# Altium schematic symbol library Stargazer_Schematic_Lib.SchLib: 36 symbols (part 1 of 2)
Pins are listed as number, name and electrical type; pins without a type are passive.

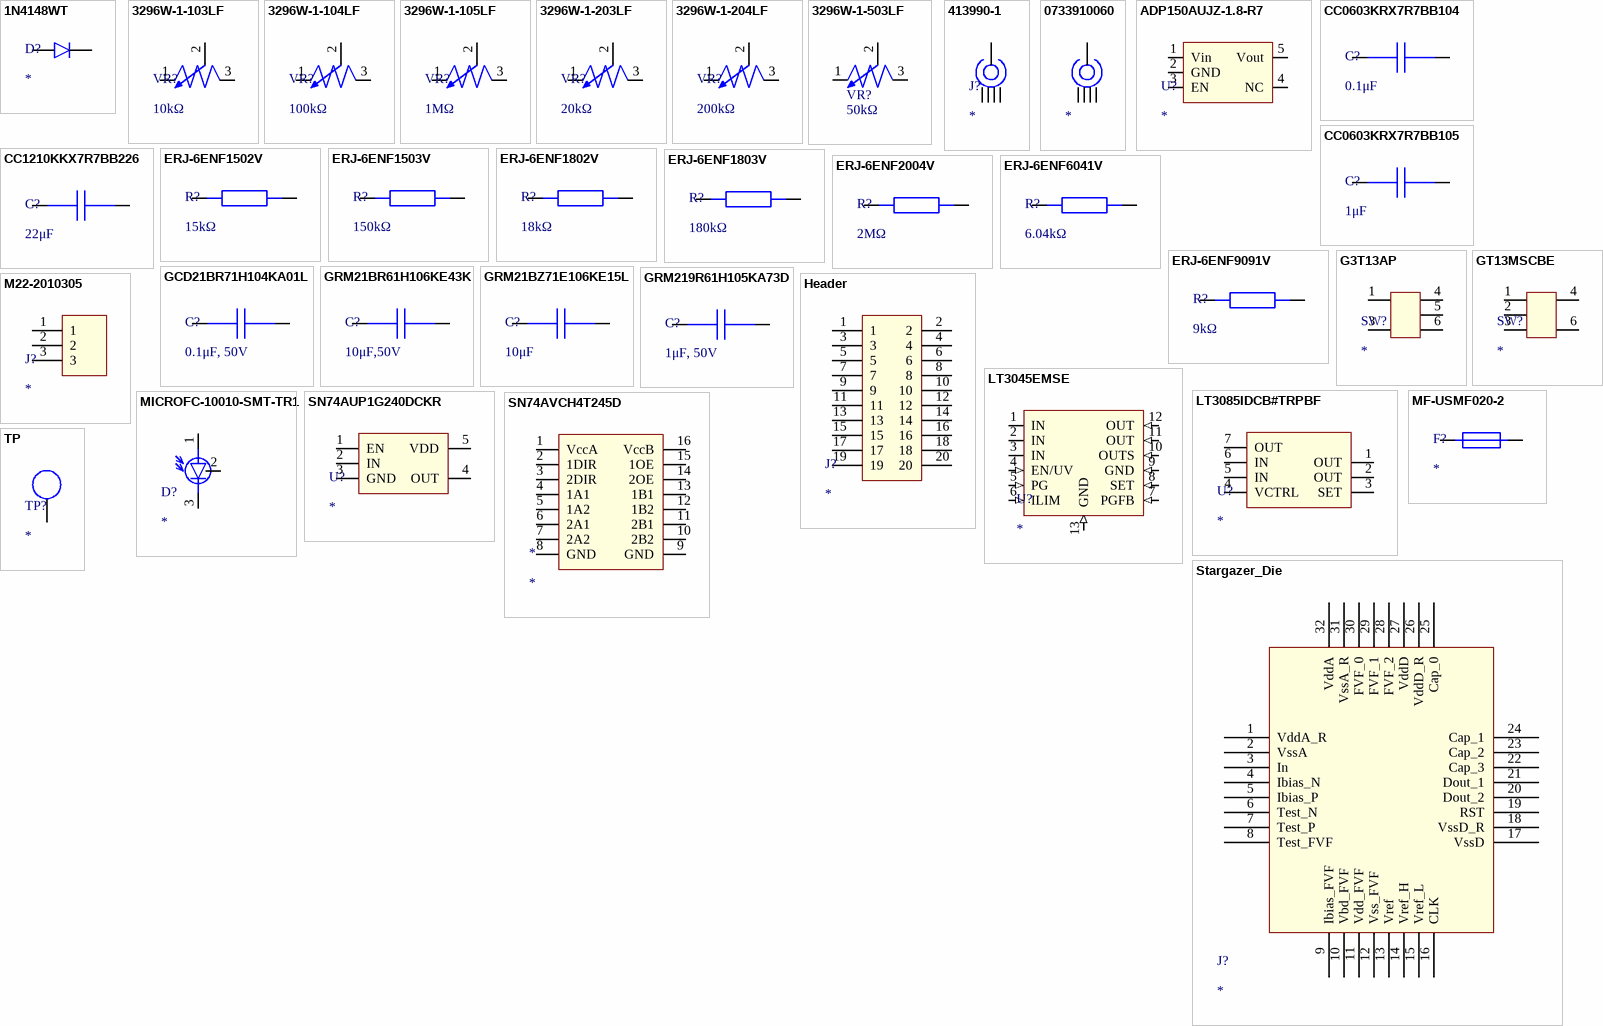
[diagram p0: symbols 1N4148WT to TP]

## 1N4148WT
designator D?
Rectifier Diode, 1 Phase, 1 Element, 0.3A, 75V V(RRM), Silicon https://www.digikey.ie/en/products/detail/onsemi/1N4148WT/1954014; Manufacturer: ON Semiconductor / Fairchild; Supplier: Rs; Supplier Part Number: 7614283P; Manufacturer Part Number: 1N4148WT; RoHS: Yes; Category: Rectifier Diodes; Stock: 67900; Pricing: 500=0.029, 1000=0.025, 2500=0.022 (EUR); Diode Type: RECTIFIER; RoHS Compliant: Yes; ComponentLink1URL: https://datasheet.ciiva.com/16744/1n4148wt-16744972.pdf?src-supplier=Future+Electronics; ComponentLink1Description: https://datasheet.ciiva.com/16744/1n4148wt-16744972.pdf?src-supplier=Future+Electronics; ComponentLink2URL: https://datasheet.ciiva.com/30479/0900766b810e1cd4-30479226.pdf?src-supplier=Rs; ComponentLink2Description: https://datasheet.ciiva.com/30479/0900766b810e1cd4-30479226.pdf?src-supplier=Rs; ComponentLink3URL: https://datasheet.ciiva.com/15208/getdatasheetpartid-146392-15208359.pdf?src-supplier=Verical; ComponentLink3Description: https://datasheet.ciiva.com/15208/getdatasheetpartid-146392-15208359.pdf?src-supplier=Verical; ComponentLink4URL: https://datasheet.ciiva.com/916/1n914bwt-916865.pdf?src-supplier=Digikey; ComponentLink4Description: https://datasheet.ciiva.com/916/1n914bwt-916865.pdf?src-supplier=Digikey; ComponentLink5URL: https://datasheet.ciiva.com/916/1n914bwt-916866.pdf?src-supplier=Digikey; ComponentLink5Description: https://datasheet.ciiva.com/916/1n914bwt-916866.pdf?src-supplier=Digikey; ComponentLink6URL: https://datasheet.ciiva.com/916/1n914bwt-916864.pdf?src-supplier=Digikey; ComponentLink6Description: https://datasheet.ciiva.com/916/1n914bwt-916864.pdf?src-supplier=Digikey
footprint SODFL160X70-2N (SODFL, 2-Leads, Body 0.80x1.60mm, IPC Medium Density)
pins: 1 Anode, 2 Cathode

## 3296W-1-103LF
designator VR?, comment 10kΩ
Trimmer, Cermet, 0.5W, 10000ohm, 300V, 10% +/-Tol, 100ppm/Cel, 25 Turn(s) https://www.digikey.ie/en/products/detail/bourns-inc/3296W-1-103LF/1088045; Manufacturer: Bourns; Actuator Orientation: Vertical; Actuator Type: SCREW; Number of Turns: 25; Power: 500mW; Rated Temperature: 70°C; Value: 10kR; Resistance Law: Linear; Rotational Angle: 9000°; Temperature Coefficient: -100100ppm/°C; Lead Diameter: 0.51mm; Lead Length: 6.4mm; Package Height: 10.03mm; Package Length: 9.53mm; Package Width: 4.83mm; Supplier: Rs; Supplier Part Number: 5219647; Manufacturer Part Number: 3296W-1-103LF; RoHS: Yes; Category: Variable Resistors and Potentiometers; Stock: 1838; Pricing: 1=2.17, 25=2.04, 50=1.86, 100=1.72, 250=1.54 (EUR); Mounting Technology: Through Hole; Pins: 3; Package Shape: Rectangular; Case/Package: 3819; Terminal Finish: Tin; Min Operating Temperature: -55°C; Max Operating Temperature: 125°C; Tolerance: 10%; JESD-609 Code: e3; Resistor Type: TRIMMER; Construction: Trimmer Pot; Package Style: PCB MountMeter; Packaging: Rail/Tube; Technology: CERMET; Termination: Wire; RoHS Compliant: Yes; Reach SVHC Compliant: No; ComponentLink1URL: https://datasheet.ciiva.com:443/pdfs/VipMasterIC/IC/BOUR/BOUR-S-A0008796795/BOUR-S-A0008796795-1.pdf?src-supplier=IHS+Markit; ComponentLink1Description: https://datasheet.ciiva.com:443/pdfs/VipMasterIC/IC/BOUR/BOUR-S-A0008796795/BOUR-S-A0008796795-1.pdf?src-supplier=IHS+Markit; ComponentLink2URL: https://datasheet.ciiva.com/14173/ew3296-dat-e-14173022.pdf?src-supplier=Distrelec; ComponentLink2Description: https://datasheet.ciiva.com/14173/ew3296-dat-e-14173022.pdf?src-supplier=Distrelec; ComponentLink3URL: https://datasheet.ciiva.com/3266/3296-3266187.pdf?src-supplier=Avnet; ComponentLink3Description: https://datasheet.ciiva.com/3266/3296-3266187.pdf?src-supplier=Avnet
footprint 3296W
pins: 1 CW, 2 CCW, 3

## 3296W-1-104LF
designator VR?, comment 100kΩ
Trimmer, Cermet, 0.5W, 100000ohm, 300V, 10% +/-Tol, 100ppm/Cel, 25 Turn(s) https://www.digikey.ie/en/products/detail/bourns-inc/3296W-1-104LF/1088046; Manufacturer: Bourns; Actuator Orientation: Vertical; Actuator Type: SCREW; Number of Turns: 25; Power: 500mW; Rated Temperature: 70°C; Value: 100kR; Resistance Law: Linear; Rotational Angle: 9000°; Temperature Coefficient: -100100ppm/°C; Lead Diameter: 0.51mm; Lead Length: 6.4mm; Package Height: 10.03mm; Package Length: 9.53mm; Package Width: 4.83mm; Supplier: Rs; Supplier Part Number: 5219653P; Manufacturer Part Number: 3296W-1-104LF; RoHS: Yes; Category: Variable Resistors and Potentiometers; Stock: 601; Pricing: 25=1.66, 50=1.5, 100=1.4, 250=1.24 (EUR); Mounting Technology: Through Hole; Pins: 3; Package Shape: Rectangular; Case/Package: 3819; Terminal Finish: Tin; Min Operating Temperature: -55°C; Max Operating Temperature: 125°C; Tolerance: 10%; JESD-609 Code: e3; Resistor Type: TRIMMER; Construction: Trimmer Pot; Package Style: PCB MountMeter; Packaging: Rail/Tube; Technology: CERMET; Termination: Wire; RoHS Compliant: Yes; Reach SVHC Compliant: No; ComponentLink1URL: https://datasheet.ciiva.com:443/pdfs/VipMasterIC/IC/BOUR/BOUR-S-A0008796795/BOUR-S-A0008796795-1.pdf?src-supplier=IHS+Markit; ComponentLink1Description: https://datasheet.ciiva.com:443/pdfs/VipMasterIC/IC/BOUR/BOUR-S-A0008796795/BOUR-S-A0008796795-1.pdf?src-supplier=IHS+Markit; ComponentLink2URL: https://datasheet.ciiva.com/19454/853599-19454875.pdf?src-supplier=Jameco; ComponentLink2Description: https://datasheet.ciiva.com/19454/853599-19454875.pdf?src-supplier=Jameco; ComponentLink3URL: https://datasheet.ciiva.com/11832/0900766b8069ccf4-11832242.pdf?src-supplier=Rs; ComponentLink3Description: https://datasheet.ciiva.com/11832/0900766b8069ccf4-11832242.pdf?src-supplier=Rs; ComponentLink4URL: https://datasheet.ciiva.com/30157/3296-30157434.pdf?src-supplier=Onlinecomponents.com; ComponentLink4Description: https://datasheet.ciiva.com/30157/3296-30157434.pdf?src-supplier=Onlinecomponents.com; ComponentLink5URL: https://datasheet.ciiva.com/18411/70153578-18411565.pdf?src-supplier=Allied+Electronics; ComponentLink5Description: https://datasheet.ciiva.com/18411/70153578-18411565.pdf?src-supplier=Allied+Electronics; ComponentLink6URL: https://datasheet.ciiva.com/1131/1815117-1131274.pdf?src-supplier=Element14; ComponentLink6Description: https://datasheet.ciiva.com/1131/1815117-1131274.pdf?src-supplier=Element14; ComponentLink7URL: https://datasheet.ciiva.com/3266/3296-3266188.pdf?src-supplier=Avnet; ComponentLink7Description: https://datasheet.ciiva.com/3266/3296-3266188.pdf?src-supplier=Avnet; ComponentLink8URL: https://datasheet.ciiva.com/2156/3296-2156895.pdf?src-supplier=Digikey; ComponentLink8Description: https://datasheet.ciiva.com/2156/3296-2156895.pdf?src-supplier=Digikey
footprint 3296W
pins: 1 CW, 2 CCW, 3

## 3296W-1-105LF
designator VR?, comment 1MΩ
Trimmer, Cermet, 0.5W, 1000000ohm, 300V, 10% +/-Tol, 100ppm/Cel, 25 Turn(s) https://www.digikey.ie/en/products/detail/bourns-inc/3296W-1-105LF/1088047; Manufacturer: Bourns; Actuator Orientation: Vertical; Actuator Type: SCREW; Number of Turns: 25; Power: 500mW; Rated Temperature: 70°C; Value: 1MR; Resistance Law: Linear; Rotational Angle: 9000°; Temperature Coefficient: -100100ppm/°C; Lead Diameter: 0.51mm; Lead Length: 6.4mm; Package Height: 10.03mm; Package Length: 9.53mm; Package Width: 4.83mm; Supplier: Rs; Supplier Part Number: 5219669P; Manufacturer Part Number: 3296W-1-105LF; RoHS: Yes; Category: Variable Resistors and Potentiometers; Stock: 234; Pricing: 10=1.97, 25=1.8, 50=1.64, 100=1.31 (EUR); Mounting Technology: Through Hole; Pins: 3; Package Shape: Rectangular; Case/Package: 3819; Terminal Finish: Tin; Min Operating Temperature: -55°C; Max Operating Temperature: 125°C; Tolerance: 10%; JESD-609 Code: e3; Resistor Type: TRIMMER; Construction: Trimmer Pot; Package Style: PCB MountMeter; Packaging: Rail/Tube; Technology: CERMET; Termination: Wire; RoHS Compliant: Yes; Reach SVHC Compliant: No; ComponentLink1URL: https://datasheet.ciiva.com:443/pdfs/VipMasterIC/IC/BOUR/BOUR-S-A0008796795/BOUR-S-A0008796795-1.pdf?src-supplier=IHS+Markit; ComponentLink1Description: https://datasheet.ciiva.com:443/pdfs/VipMasterIC/IC/BOUR/BOUR-S-A0008796795/BOUR-S-A0008796795-1.pdf?src-supplier=IHS+Markit; ComponentLink2URL: https://datasheet.ciiva.com/11831/0900766b8069ccf4-11831374.pdf?src-supplier=Rs; ComponentLink2Description: https://datasheet.ciiva.com/11831/0900766b8069ccf4-11831374.pdf?src-supplier=Rs; ComponentLink3URL: https://datasheet.ciiva.com/19466/853610-19466656.pdf?src-supplier=Jameco; ComponentLink3Description: https://datasheet.ciiva.com/19466/853610-19466656.pdf?src-supplier=Jameco; ComponentLink4URL: https://datasheet.ciiva.com/30226/3296-30226974.pdf?src-supplier=Onlinecomponents.com; ComponentLink4Description: https://datasheet.ciiva.com/30226/3296-30226974.pdf?src-supplier=Onlinecomponents.com; ComponentLink5URL: https://datasheet.ciiva.com/16714/70153578-16714837.pdf?src-supplier=Allied+Electronics; ComponentLink5Description: https://datasheet.ciiva.com/16714/70153578-16714837.pdf?src-supplier=Allied+Electronics; ComponentLink6URL: https://datasheet.ciiva.com/1131/1815117-1131275.pdf?src-supplier=Element14; ComponentLink6Description: https://datasheet.ciiva.com/1131/1815117-1131275.pdf?src-supplier=Element14; ComponentLink7URL: https://datasheet.ciiva.com/3266/3296-3266189.pdf?src-supplier=Avnet; ComponentLink7Description: https://datasheet.ciiva.com/3266/3296-3266189.pdf?src-supplier=Avnet; ComponentLink8URL: https://datasheet.ciiva.com/2163/3296-2163698.pdf?src-supplier=Digikey; ComponentLink8Description: https://datasheet.ciiva.com/2163/3296-2163698.pdf?src-supplier=Digikey; ComponentLink9URL: https://datasheet.ciiva.com/15156/getdatasheetpartid-123592-15156614.pdf?src-supplier=Verical; ComponentLink9Description: https://datasheet.ciiva.com/15156/getdatasheetpartid-123592-15156614.pdf?src-supplier=Verical; ComponentLink10URL: https://datasheet.ciiva.com/19482/1156779-19482123.pdf?src-supplier=Jameco; ComponentLink10Description: https://datasheet.ciiva.com/19482/1156779-19482123.pdf?src-supplier=Jameco
footprint 3296W
pins: 1 CW, 2 CCW, 3

## 3296W-1-203LF
designator VR?, comment 20kΩ
Trimmer, Cermet, 0.5W, 20000ohm, 300V, 10% +/-Tol, 100ppm/Cel, 25 Turn(s) https://www.bourns.com/docs/product-datasheets/3296.pdf; Manufacturer: Bourns; Manufacturer Part Number: 3296W-1-203LF; Actuator Orientation: Vertical; Actuator Type: SCREW; Number of Turns: 25; Power: 500mW; Rated Temperature: 70°C; Value: 20kR; Resistance Law: Linear; Rotational Angle: 9000°; Temperature Coefficient: -100100ppm/°C; Lead Diameter: 0.51mm; Lead Length: 6.4mm; Package Height: 10.03mm; Package Length: 9.53mm; Package Width: 4.83mm; Supplier: Digikey; Supplier Part Number: 3296W-203LF-ND; RoHS: Yes; Category: Variable Resistors and Potentiometers; Stock: 2018; Mounting Technology: Through Hole; Pins: 3; Package Shape: Rectangular; Case/Package: 3819; Terminal Finish: Tin; Min Operating Temperature: -55°C; Max Operating Temperature: 125°C; Tolerance: 10%; JESD-609 Code: e3; Resistor Type: TRIMMER; Construction: Trimmer Pot; Package Style: PCB MountMeter; Packaging: Rail/Tube; Technology: CERMET; Termination: Wire; RoHS Compliant: Yes; Reach SVHC Compliant: No; ComponentLink1URL: https://datasheet.ciiva.com:443/pdfs/VipMasterIC/IC/BOUR/BOUR-S-A0008796795/BOUR-S-A0008796795-1.pdf?src-supplier=IHS+Markit; ComponentLink1Description: https://datasheet.ciiva.com:443/pdfs/VipMasterIC/IC/BOUR/BOUR-S-A0008796795/BOUR-S-A0008796795-1.pdf?src-supplier=IHS+Markit; ComponentLink2URL: https://datasheet.ciiva.com/14173/ew3296-dat-e-14173023.pdf?src-supplier=Distrelec; ComponentLink2Description: https://datasheet.ciiva.com/14173/ew3296-dat-e-14173023.pdf?src-supplier=Distrelec; ComponentLink3URL: https://datasheet.ciiva.com/15156/getdatasheetpartid-62506-15156343.pdf?src-supplier=Verical; ComponentLink3Description: https://datasheet.ciiva.com/15156/getdatasheetpartid-62506-15156343.pdf?src-supplier=Verical
footprint 3296W
pins: 1 CW, 2 CCW, 3

## 3296W-1-204LF
designator VR?, comment 200kΩ
Trimmer, Cermet, 0.5W, 200000ohm, 300V, 10% +/-Tol, 100ppm/Cel, 25 Turn(s) https://www.bourns.com/docs/product-datasheets/3296.pdf; Manufacturer: Bourns; Manufacturer Part Number: 3296W-1-204LF; Actuator Orientation: Vertical; Actuator Type: SCREW; Number of Turns: 25; Power: 500mW; Rated Temperature: 70°C; Value: 200kR; Resistance Law: Linear; Rotational Angle: 9000°; Temperature Coefficient: -100100ppm/°C; Lead Diameter: 0.51mm; Lead Length: 6.4mm; Package Height: 10.03mm; Package Length: 9.53mm; Package Width: 4.83mm; Supplier: Rs; Supplier Part Number: 5219726; RoHS: Yes; Category: Variable Resistors and Potentiometers; Stock: 107; Pricing: 1=2.25, 10=2.02, 25=1.83, 50=1.68, 100=1.35 (EUR); Mounting Technology: Through Hole; Pins: 3; Package Shape: Rectangular; Case/Package: 3819; Terminal Finish: Tin; Min Operating Temperature: -55°C; Max Operating Temperature: 125°C; Tolerance: 10%; JESD-609 Code: e3; Resistor Type: TRIMMER; Construction: Trimmer Pot; Package Style: PCB MountMeter; Packaging: Rail/Tube; Technology: CERMET; Termination: Wire; RoHS Compliant: Yes; Reach SVHC Compliant: No; ComponentLink1URL: https://datasheet.ciiva.com:443/pdfs/VipMasterIC/IC/BOUR/BOUR-S-A0008796795/BOUR-S-A0008796795-1.pdf?src-supplier=IHS+Markit; ComponentLink1Description: https://datasheet.ciiva.com:443/pdfs/VipMasterIC/IC/BOUR/BOUR-S-A0008796795/BOUR-S-A0008796795-1.pdf?src-supplier=IHS+Markit; ComponentLink2URL: https://datasheet.ciiva.com/11831/0900766b8069ccf4-11831116.pdf?src-supplier=Rs; ComponentLink2Description: https://datasheet.ciiva.com/11831/0900766b8069ccf4-11831116.pdf?src-supplier=Rs; ComponentLink3URL: https://datasheet.ciiva.com/27051/1156824-27051543.pdf?src-supplier=Jameco; ComponentLink3Description: https://datasheet.ciiva.com/27051/1156824-27051543.pdf?src-supplier=Jameco; ComponentLink4URL: https://datasheet.ciiva.com/29122/447282-da-01-en-trimmer-tht3296w-1-204lf-200k-0-5w-29122366.pdf?src-supplier=Conrad; ComponentLink4Description: https://datasheet.ciiva.com/29122/447282-da-01-en-trimmer-tht3296w-1-204lf-200k-0-5w-29122366.pdf?src-supplier=Conrad; ComponentLink5URL: https://datasheet.ciiva.com/1131/1815117-1131340.pdf?src-supplier=Element14; ComponentLink5Description: https://datasheet.ciiva.com/1131/1815117-1131340.pdf?src-supplier=Element14; ComponentLink6URL: https://datasheet.ciiva.com/3267/3296-3267277.pdf?src-supplier=Avnet; ComponentLink6Description: https://datasheet.ciiva.com/3267/3296-3267277.pdf?src-supplier=Avnet; ComponentLink7URL: https://datasheet.ciiva.com/2156/3296-2156917.pdf?src-supplier=Digikey; ComponentLink7Description: https://datasheet.ciiva.com/2156/3296-2156917.pdf?src-supplier=Digikey
footprint 3296W
pins: 1 CW, 2 CCW, 3

## 3296W-1-503LF
designator VR?, comment 50kΩ
Trimmer, Cermet, 0.5W, 50000ohm, 300V, 10% +/-Tol, 100ppm/Cel, 25 Turn(s); Manufacturer: Bourns; Manufacturer Part Number: 3296W-1-503LF; Actuator Orientation: Vertical; Actuator Type: SCREW; Number of Turns: 25; Power: 500mW; Rated Temperature: 70°C; Value: 50kR; Resistance Law: Linear; Rotational Angle: 9000°; Temperature Coefficient: -100100ppm/°C; Lead Diameter: 0.51mm; Lead Length: 6.4mm; Package Height: 10.03mm; Package Length: 9.53mm; Package Width: 4.83mm; Supplier: Rs; Supplier Part Number: 5219805P; RoHS: Yes; Category: Variable Resistors and Potentiometers; Stock: 478; Pricing: 25=2.1, 50=1.91, 100=1.77, 250=1.6 (EUR); Mounting Technology: Through Hole; Pins: 3; Package Shape: Rectangular; Case/Package: 3819; Terminal Finish: Tin; Min Operating Temperature: -55°C; Max Operating Temperature: 125°C; Tolerance: 10%; JESD-609 Code: e3; Resistor Type: TRIMMER; Construction: Trimmer Pot; Package Style: PCB MountMeter; Packaging: Rail/Tube; Technology: CERMET; Termination: Wire; RoHS Compliant: Yes; Reach SVHC Compliant: No; ComponentLink1URL: https://datasheet.ciiva.com:443/pdfs/VipMasterIC/IC/BOUR/BOUR-S-A0008796795/BOUR-S-A0008796795-1.pdf?src-supplier=IHS+Markit; ComponentLink1Description: https://datasheet.ciiva.com:443/pdfs/VipMasterIC/IC/BOUR/BOUR-S-A0008796795/BOUR-S-A0008796795-1.pdf?src-supplier=IHS+Markit; ComponentLink2URL: https://datasheet.ciiva.com/27747/769485-27747554.pdf?src-supplier=Jameco; ComponentLink2Description: https://datasheet.ciiva.com/27747/769485-27747554.pdf?src-supplier=Jameco; ComponentLink3URL: https://datasheet.ciiva.com/29122/447285-da-01-en-trimmer-tht3296w-1-503lf-50k-0-5w-29122369.pdf?src-supplier=Conrad; ComponentLink3Description: https://datasheet.ciiva.com/29122/447285-da-01-en-trimmer-tht3296w-1-503lf-50k-0-5w-29122369.pdf?src-supplier=Conrad; ComponentLink4URL: https://datasheet.ciiva.com/2156/3296-2156902.pdf?src-supplier=Digikey; ComponentLink4Description: https://datasheet.ciiva.com/2156/3296-2156902.pdf?src-supplier=Digikey; ComponentLink5URL: https://datasheet.ciiva.com/3266/3296-3266197.pdf?src-supplier=Avnet; ComponentLink5Description: https://datasheet.ciiva.com/3266/3296-3266197.pdf?src-supplier=Avnet
footprint 3296W
pins: 1 CW, 2 CCW, 3

## 413990-1
designator J?
RF SMB Connector, 1 Contact(s), Male, Board Mount, Solder Terminal, Locking, Jack https://www.digikey.ie/en/products/detail/te-connectivity-amp-connectors/413990-1/163783; Manufacturer: TE Connectivity; Manufacturer Series: 413990; Contact Resistance: 8mR; Durability: 500Cycles; Insertion Force-Max: 62.272N; Insulation Resistance: 1GR; Rated Current (Signal): 1.5A; Number of Contacts: 1; Withdrawl Force-Min: 8.896N; Option: General Purpose; Characteristic Impedance: 50R; Contact Style: Coax; Coupling Type: Snap; Filter Feature: No; Insertion Loss: 0.3dB; Operating Frequency-Max: 4kHz; Panel Mount: No; Body Breadth: 0.25inch; Body Depth: 0.3inch; Reliability: COMMERCIAL; Supplier: Rs; Supplier Part Number: 7131123P; Manufacturer Part Number: 413990-1; RoHS: Yes; Category: RF / Coaxial Connectors; Stock: 87; Pricing: 15=5.5, 50=5.13, 100=4.67, 250=4.54 (EUR); Mounting Technology: Board; Contact Finish - Mating: NOT SPECIFIED; Insulation Material: POLYTETRAFLUORO; Shell Finish: Gold; Shell Material: Brass; Min Operating Temperature: -65°C; Max Operating Temperature: 165°C; Connector Type: SMB; Body/Shell Style: JACK; Mounting Style: STRAIGHT; Termination: Solder; JESD-609 Code: e4; Contact Gender: Male; Number of Ports: 1; Mounting Option 1: LOCKING; Terminal Length: 0.155inch; Body Length: 0.25inch; RoHS Compliant: Yes; Reach SVHC Compliant: No; DIN Conformance: No; IEC Conformance: No; MIL Conformance: No; ComponentLink1URL: https://www.te.com:443/usa-en/product-413990-1.html?src-supplier=IHS+Markit; ComponentLink1Description: https://www.te.com:443/usa-en/product-413990-1.html?src-supplier=IHS+Markit; ComponentLink2URL: https://datasheet.ciiva.com/27050/848415-27050392.pdf?src-supplier=Jameco; ComponentLink2Description: https://datasheet.ciiva.com/27050/848415-27050392.pdf?src-supplier=Jameco; ComponentLink3URL: https://datasheet.ciiva.com/11762/0900766b80edb1fd-11762988.pdf?src-supplier=Rs; ComponentLink3Description: https://datasheet.ciiva.com/11762/0900766b80edb1fd-11762988.pdf?src-supplier=Rs; ComponentLink4URL: https://datasheet.ciiva.com/642/eng-cd-413990-d2-642893.pdf?src-supplier=Digikey; ComponentLink4Description: https://datasheet.ciiva.com/642/eng-cd-413990-d2-642893.pdf?src-supplier=Digikey; ComponentLink5URL: https://datasheet.ciiva.com/14567/70083830-14567895.pdf?src-supplier=Allied+Electronics; ComponentLink5Description: https://datasheet.ciiva.com/14567/70083830-14567895.pdf?src-supplier=Allied+Electronics; ComponentLink6URL: https://datasheet.ciiva.com/30157/eng-cs-1307191-rf-coax-products-0307-30157272.pdf?src-supplier=Onlinecomponents.com; ComponentLink6Description: https://datasheet.ciiva.com/30157/eng-cs-1307191-rf-coax-products-0307-30157272.pdf?src-supplier=Onlinecomponents.com; ComponentLink7URL: https://datasheet.ciiva.com/1448/595924-1448441.pdf?src-supplier=Element14; ComponentLink7Description: https://datasheet.ciiva.com/1448/595924-1448441.pdf?src-supplier=Element14
footprint CONN_SMB_RCPT_STR
pins: 1, 2, 3, 4, 5

## 0733910060
designator J?
RF SMA Connector, Female, Board Mount, Solder Terminal, Receptacle https://www.digikey.ie/en/products/detail/molex/0732513140/9740776?s=N4IgTCBcDaIOwGYwFYCMDUBYAMIC6AvkA; Manufacturer: Molex; Manufacturer Part Number: 0733910060; Manufacturer Series: 73391; Characteristic Impedance: 50R; Option: General Purpose; Coupling Type: Threaded; Filter Feature: No; Panel Mount: No; Supplier: Rs; Supplier Part Number: 7595303; RoHS: Yes; Stock: 101; Pricing: 1=4.69, 15=4.12, 50=3.95, 100=3.81, 250=3.65 (EUR); Mounting Technology: Board; Contact Finish - Mating: NOT SPECIFIED; Connector Type: SMA; Body/Shell Style: RECEPTACLE; Mounting Style: STRAIGHT; Termination: Solder; Contact Gender: Female; RoHS Compliant: Yes; Reach SVHC Compliant: No; DIN Conformance: No; IEC Conformance: No; MIL Conformance: No; ComponentLink1URL: https://datasheet.ciiva.com:443/pdfs/VipMasterIC/IC/MOLE/MOLE-S-A0001434891/MOLE-S-A0001473123-1.pdf?src-supplier=IHS+Markit; ComponentLink1Description: https://datasheet.ciiva.com:443/pdfs/VipMasterIC/IC/MOLE/MOLE-S-A0001434891/MOLE-S-A0001473123-1.pdf?src-supplier=IHS+Markit
footprint CONN_SMA_RCPT_STR
pins: 1, 2, 3, 4, 5

## ADP150AUJZ-1.8-R7
designator U?
Ultralow Noise, 150 mA CMOS Linear Regulator, 2.2 to 5.5 V Vin, 1.8 V Vout, Industrial, 5-pin SOT23 (UJ-5), Reel; Manufacturer: Analog Devices; Manufacturer Part Number: ADP150AUJZ-1.8-R7; Package Body Material: Plastic; Adjustability: FIXED; Dropout Voltage1-Nom: 105mV; Input Voltage Absolute-Max: 6.5V; Max Supply Voltage: 5.5V; Min Input Voltage: 2.2V; Line Regulation-Max: 0.003%; Load Regulation-Max: 0.0203%; Channels: 1; Output Current1-Max: 150mA; Output Voltage1-Max: 1.827V; Output Voltage1-Min: 1.755V; Output Voltage1-Nom: 1.8V; Package Equivalence Code: TSOP5/6,.11,37; Regulator Type: FIXED POSITIVE SINGLE OUTPUT LDO REGULATOR; Time @ Peak Reflow Temperature-Max (s): 40s; Voltage Tolerance-Max: 2.5%; Qualification Status: Not Qualified; Supplier: Mouser; Supplier Part Number: 584-ADP150AUJZ-1.8R7; RoHS: Yes; Category: Voltage Regulators - Linear; Stock: 2472; Case/Package: VSSOP; Pins: 5; Package Shape: Rectangular; Terminal Finish: Tin; JESD-609 Code: e3; JESD-30 Code: R-PDSO-G5; Moisture Sensitivity Level: 1; Number of Outputs: 1; Operating Temperature, TJ-Max: 125°C; Operating Temperature, TJ-Min: -40°C; Package Style: SMALL OUTLINE, VERY THIN PROFILE, SHRINK PITCHMeter; Packaging: Tape and Reel; Peak Reflow Temperature (Cel): 260°C; Surface Mount: Yes; Technology: CMOS; Terminal Form: Gull Wing; Terminal Position: DUAL; Length: 2.9mm; Width: 1.6mm; Height - Seated (Max): 1mm; Terminal Pitch: 0.95mm; Reach SVHC Compliant: Yes; RoHS Compliant: Yes; ComponentLink1URL: https://datasheet.ciiva.com:443/pdfs/VipMasterIC/IC/ANDI/ANDI-S-A0001491086/ANDI-S-A0001491086-1.pdf?src-supplier=IHS+Markit; ComponentLink1Description: https://datasheet.ciiva.com:443/pdfs/VipMasterIC/IC/ANDI/ANDI-S-A0001491086/ANDI-S-A0001491086-1.pdf?src-supplier=IHS+Markit; ComponentLink2URL: https://datasheet.ciiva.com/2040/adp150-2040604.pdf?src-supplier=Digikey; ComponentLink2Description: https://datasheet.ciiva.com/2040/adp150-2040604.pdf?src-supplier=Digikey; ComponentLink3URL: https://datasheet.ciiva.com/2040/adp150-2040605.pdf?src-supplier=Digikey; ComponentLink3Description: https://datasheet.ciiva.com/2040/adp150-2040605.pdf?src-supplier=Digikey; ComponentLink4URL: https://datasheet.ciiva.com/2040/adp150-2040606.pdf?src-supplier=Digikey; ComponentLink4Description: https://datasheet.ciiva.com/2040/adp150-2040606.pdf?src-supplier=Digikey
pins: 1 Vin, 2 GND, 3 EN, 4 NC, 5 Vout

## CC0603KRX7R7BB104
designator C?, comment 0.1μF
Ceramic Capacitor, Multilayer, Ceramic, 16V, 10% +Tol, 10% -Tol, X7R, 15% TC, 0.1uF, Surface Mount, 0603 https://www.digikey.ie/en/products/detail/yageo/CC0603KRX7R7BB104/302822; Manufacturer: Yageo; Value: 100nF; Multilayer: Yes; Supplier: Digikey; Supplier Part Number: 311-1088-1-ND; Manufacturer Part Number: CC0603KRX7R7BB104; RoHS: Yes; Category: Ceramic Capacitors; Stock: 8597331; Mounting Technology: Surface Mount; Pins: 2; Dielectric Material: Ceramic; Package Shape: Rectangular; Case/Package: 0603; Terminal Finish: Nickel; Min Operating Temperature: -55°C; Max Operating Temperature: 125°C; JESD-609 Code: e3; Capacitor Type: Ceramic; Tolerance  (fill in as +-): 10%; Package Style: SMTMeter; Packaging: Tape and Reel; Tolerance (fill in as +-): 10%; Rated DC Voltage (URdc): 16V; Temperature Characteristics Code: X7R; Termination: Wraparound; Length: 1.6mm; Width: 0.8mm; Height: 0.8mm; Reach SVHC Compliant: Yes; RoHS Compliant: Yes; ComponentLink1URL: https://datasheet.ciiva.com:443/pdfs/VipMasterIC/IC/YAGO/YAGO-S-A0003557223/YAGO-S-A0003557223-1.pdf?src-supplier=IHS+Markit; ComponentLink1Description: https://datasheet.ciiva.com:443/pdfs/VipMasterIC/IC/YAGO/YAGO-S-A0003557223/YAGO-S-A0003557223-1.pdf?src-supplier=IHS+Markit; ComponentLink2URL: https://datasheet.ciiva.com/11786/0900766b80d84f1d-11786077.pdf?src-supplier=Rs; ComponentLink2Description: https://datasheet.ciiva.com/11786/0900766b80d84f1d-11786077.pdf?src-supplier=Rs; ComponentLink3URL: https://datasheet.ciiva.com/8033/70765-8033799.pdf?src-supplier=Element14; ComponentLink3Description: https://datasheet.ciiva.com/8033/70765-8033799.pdf?src-supplier=Element14; ComponentLink4URL: https://datasheet.ciiva.com/7978/1489800-7978141.pdf?src-supplier=Element14; ComponentLink4Description: https://datasheet.ciiva.com/7978/1489800-7978141.pdf?src-supplier=Element14; ComponentLink5URL: https://datasheet.ciiva.com/28450/1489800-28450552.pdf?src-supplier=Element14; ComponentLink5Description: https://datasheet.ciiva.com/28450/1489800-28450552.pdf?src-supplier=Element14; ComponentLink6URL: https://datasheet.ciiva.com/46430/1734573-46430156.pdf?src-supplier=Element14; ComponentLink6Description: https://datasheet.ciiva.com/46430/1734573-46430156.pdf?src-supplier=Element14; ComponentLink7URL: https://datasheet.ciiva.com/144/mlccorderingcode-144183.pdf?src-supplier=Digikey; ComponentLink7Description: https://datasheet.ciiva.com/144/mlccorderingcode-144183.pdf?src-supplier=Digikey; ComponentLink8URL: https://datasheet.ciiva.com/144/mlccorderingcode-144182.pdf?src-supplier=Digikey; ComponentLink8Description: https://datasheet.ciiva.com/144/mlccorderingcode-144182.pdf?src-supplier=Digikey; ComponentLink9URL: https://datasheet.ciiva.com/144/mlccorderingcode-144184.pdf?src-supplier=Digikey; ComponentLink9Description: https://datasheet.ciiva.com/144/mlccorderingcode-144184.pdf?src-supplier=Digikey; ComponentLink10URL: https://datasheet.ciiva.com/8033/1734573-8033797.pdf?src-supplier=Element14; ComponentLink10Description: https://datasheet.ciiva.com/8033/1734573-8033797.pdf?src-supplier=Element14; ComponentLink11URL: https://datasheet.ciiva.com/13395/upy-gphc-x7r-6-3v-to-50v-8-13395674.pdf?src-supplier=Mouser; ComponentLink11Description: https://datasheet.ciiva.com/13395/upy-gphc-x7r-6-3v-to-50v-8-13395674.pdf?src-supplier=Mouser
pins: 1, 2

## CC0603KRX7R7BB105
designator C?, comment 1μF
Ceramic Capacitor, Multilayer, Ceramic, 16V, 10% +Tol, 10% -Tol, X7R, 15% TC, 1uF, Surface Mount, 0603 https://www.digikey.ie/en/products/detail/yageo/CC0603KRX7R7BB105/2833611; Manufacturer: Yageo; Multilayer: Yes; Supplier: Digikey; Supplier Part Number: 311-1446-6-ND; Manufacturer Part Number: CC0603KRX7R7BB105; RoHS: Yes; Category: Ceramic Capacitors; Stock: 9128438; Mounting Technology: Surface Mount; Pins: 2; Dielectric Material: Ceramic; Package Shape: Rectangular; Case/Package: 0603; Terminal Finish: Nickel; Min Operating Temperature: -55°C; Max Operating Temperature: 125°C; JESD-609 Code: e3; Value: 1uF; Capacitor Type: Ceramic; Tolerance  (fill in as +-): 10%; Package Style: SMTMeter; Packaging: Tape and Reel; Tolerance (fill in as +-): 10%; Rated DC Voltage (URdc): 16V; Temperature Characteristics Code: X7R; Termination: Wraparound; Length: 1.6mm; Width: 0.8mm; Height: 0.8mm; Reach SVHC Compliant: Yes; RoHS Compliant: Yes; ComponentLink1URL: https://datasheet.ciiva.com:443/pdfs/VipMasterIC/IC/YAGO/YAGO-S-A0003557223/YAGO-S-A0003557223-1.pdf?src-supplier=IHS+Markit; ComponentLink1Description: https://datasheet.ciiva.com:443/pdfs/VipMasterIC/IC/YAGO/YAGO-S-A0003557223/YAGO-S-A0003557223-1.pdf?src-supplier=IHS+Markit; ComponentLink2URL: https://datasheet.ciiva.com/8033/1734573-8033801.pdf?src-supplier=Element14; ComponentLink2Description: https://datasheet.ciiva.com/8033/1734573-8033801.pdf?src-supplier=Element14; ComponentLink3URL: https://datasheet.ciiva.com/8033/1734573-8033800.pdf?src-supplier=Element14; ComponentLink3Description: https://datasheet.ciiva.com/8033/1734573-8033800.pdf?src-supplier=Element14; ComponentLink4URL: https://datasheet.ciiva.com/7978/1489800-7978143.pdf?src-supplier=Element14; ComponentLink4Description: https://datasheet.ciiva.com/7978/1489800-7978143.pdf?src-supplier=Element14; ComponentLink5URL: https://datasheet.ciiva.com/28450/1489800-28450557.pdf?src-supplier=Element14; ComponentLink5Description: https://datasheet.ciiva.com/28450/1489800-28450557.pdf?src-supplier=Element14; ComponentLink6URL: https://datasheet.ciiva.com/176/mlccorderingcode-176789.pdf?src-supplier=Digikey; ComponentLink6Description: https://datasheet.ciiva.com/176/mlccorderingcode-176789.pdf?src-supplier=Digikey; ComponentLink7URL: https://datasheet.ciiva.com/176/mlccorderingcode-176788.pdf?src-supplier=Digikey; ComponentLink7Description: https://datasheet.ciiva.com/176/mlccorderingcode-176788.pdf?src-supplier=Digikey; ComponentLink8URL: https://datasheet.ciiva.com/176/mlccorderingcode-176790.pdf?src-supplier=Digikey; ComponentLink8Description: https://datasheet.ciiva.com/176/mlccorderingcode-176790.pdf?src-supplier=Digikey; ComponentLink9URL: https://datasheet.ciiva.com/5425/upy-gphc-x7r-6-3v-to-50v-8-12304-5425495.pdf?src-supplier=Mouser; ComponentLink9Description: https://datasheet.ciiva.com/5425/upy-gphc-x7r-6-3v-to-50v-8-12304-5425495.pdf?src-supplier=Mouser
pins: 1, 2

## CC1210KKX7R7BB226
designator C?, comment 22μF
Ceramic Capacitor, Multilayer, Ceramic, 16V, 10% +Tol, 10% -Tol, X7R, 15% TC, 22uF, Surface Mount, 1210 https://www.digikey.ie/en/products/detail/yageo/CC1210KKX7R7BB226/5195434; Manufacturer: Yageo; Multilayer: Yes; Supplier: Rs; Supplier Part Number: 1992345; Manufacturer Part Number: CC1210KKX7R7BB226; RoHS: Yes; Category: Ceramic Capacitors; Stock: 1770; Pricing: 10=0.332, 100=0.248, 500=0.216, 1000=0.198 (EUR); Mounting Technology: Surface Mount; Pins: 2; Dielectric Material: Ceramic; Package Shape: Rectangular; Case/Package: 1210; Terminal Finish: Nickel; Min Operating Temperature: -55°C; Max Operating Temperature: 125°C; JESD-609 Code: e3; Value: 22uF; Capacitor Type: Ceramic; Tolerance  (fill in as +-): 10%; Package Style: SMTMeter; Packaging: Tape and Reel; Tolerance (fill in as +-): 10%; Rated DC Voltage (URdc): 16V; Temperature Characteristics Code: X7R; Termination: Wraparound; Length: 3.2mm; Width: 2.5mm; Height: 2.5mm; Reach SVHC Compliant: Yes; RoHS Compliant: Yes; ComponentLink1URL: https://datasheet.ciiva.com:443/pdfs/VipMasterIC/IC/YAGO/YAGO-S-A0003557223/YAGO-S-A0003557223-1.pdf?src-supplier=IHS+Markit; ComponentLink1Description: https://datasheet.ciiva.com:443/pdfs/VipMasterIC/IC/YAGO/YAGO-S-A0003557223/YAGO-S-A0003557223-1.pdf?src-supplier=IHS+Markit; ComponentLink2URL: https://datasheet.ciiva.com/11465/upy-gphc-x7r-6-3v-to-50v-8-11465512.pdf?src-supplier=Avnet; ComponentLink2Description: https://datasheet.ciiva.com/11465/upy-gphc-x7r-6-3v-to-50v-8-11465512.pdf?src-supplier=Avnet
pins: 1, 2

## ERJ-6ENF1502V
designator R?, comment 15kΩ
Fixed Resistor, Metal Glaze/thick Film, 0.125W, 15000ohm, 150V, 1% +/-Tol, 100ppm/Cel, Surface Mount, 0805 https://www.digikey.ie/en/products/detail/panasonic-electronic-components/ERJ-6ENF1502V/111508; Power: 125mW; Rated Temperature: 70°C; Value: 15kR; Temperature Coefficient: 100ppm/°C; Package Height: 0.6mm; Package Length: 2mm; Package Width: 1.25mm; Reference Standard: AEC-Q200; Supplier: Mouser; Supplier Part Number: 667-ERJ-6ENF1502V; Manufacturer: Panasonic; Manufacturer Part Number: ERJ-6ENF1502V; RoHS: Yes; Category: Chip SMD Resistors; Stock: 95123; Mounting Technology: Surface Mount; Pins: 2; Package Shape: Rectangular; Case/Package: 0805; Terminal Finish: Nickel; Min Operating Temperature: -55°C; Max Operating Temperature: 155°C; Tolerance: 1%; Construction: Rectangular; Package Style: SMTMeter; Packaging: Tape and Reel; Termination: Wraparound; JESD-609 Code: e3; Resistor Type: FIXED RESISTOR; Technology: METAL GLAZE/THICK FILM; Working Voltage: 150V; RoHS Compliant: Yes; Reach SVHC Compliant: Yes; ComponentLink1URL: https://datasheet.ciiva.com:443/pdfs/VipMasterIC/IC/PANA/PANA-S-A0009889626/PANA-S-A0009889626-1.pdf?src-supplier=IHS+Markit; ComponentLink1Description: https://datasheet.ciiva.com:443/pdfs/VipMasterIC/IC/PANA/PANA-S-A0009889626/PANA-S-A0009889626-1.pdf?src-supplier=IHS+Markit; ComponentLink2URL: https://datasheet.ciiva.com/11821/0900766b80f80784-11821538.pdf?src-supplier=Rs; ComponentLink2Description: https://datasheet.ciiva.com/11821/0900766b80f80784-11821538.pdf?src-supplier=Rs; ComponentLink3URL: https://datasheet.ciiva.com/6138/426256-6138184.pdf?src-supplier=Farnell; ComponentLink3Description: https://datasheet.ciiva.com/6138/426256-6138184.pdf?src-supplier=Farnell; ComponentLink4URL: https://datasheet.ciiva.com/27055/1989076-27055738.pdf?src-supplier=Jameco; ComponentLink4Description: https://datasheet.ciiva.com/27055/1989076-27055738.pdf?src-supplier=Jameco; ComponentLink5URL: https://datasheet.ciiva.com/8079/426256-8079611.pdf?src-supplier=Element14; ComponentLink5Description: https://datasheet.ciiva.com/8079/426256-8079611.pdf?src-supplier=Element14; ComponentLink6URL: https://datasheet.ciiva.com/22668/1678782-22668330.pdf?src-supplier=Element14; ComponentLink6Description: https://datasheet.ciiva.com/22668/1678782-22668330.pdf?src-supplier=Element14; ComponentLink7URL: https://datasheet.ciiva.com/22687/1678782-22687078.pdf?src-supplier=Element14; ComponentLink7Description: https://datasheet.ciiva.com/22687/1678782-22687078.pdf?src-supplier=Element14; ComponentLink8URL: https://datasheet.ciiva.com/16773/70260748-16773989.pdf?src-supplier=Allied+Electronics; ComponentLink8Description: https://datasheet.ciiva.com/16773/70260748-16773989.pdf?src-supplier=Allied+Electronics; ComponentLink9URL: https://datasheet.ciiva.com/16426/aoa0000ce2-16426213.pdf?src-supplier=Future+Electronics; ComponentLink9Description: https://datasheet.ciiva.com/16426/aoa0000ce2-16426213.pdf?src-supplier=Future+Electronics
pins: 1 -, 2

## ERJ-6ENF1503V
designator R?, comment 150kΩ
Fixed Resistor, Metal Glaze/thick Film, 0.125W, 150000ohm, 150V, 1% +/-Tol, 100ppm/Cel, Surface Mount, 0805 https://www.digikey.ie/en/products/detail/panasonic-electronic-components/ERJ-6ENF1503V/111899; Power: 125mW; Rated Temperature: 70°C; Value: 150kR; Temperature Coefficient: 100ppm/°C; Package Height: 0.6mm; Package Length: 2mm; Package Width: 1.25mm; Reference Standard: AEC-Q200; Supplier: Mouser; Supplier Part Number: 667-ERJ-6ENF1503V; Manufacturer: Panasonic; Manufacturer Part Number: ERJ-6ENF1503V; RoHS: Yes; Category: Chip SMD Resistors; Stock: 83217; Mounting Technology: Surface Mount; Pins: 2; Package Shape: Rectangular; Case/Package: 0805; Terminal Finish: Nickel; Min Operating Temperature: -55°C; Max Operating Temperature: 155°C; Tolerance: 1%; Construction: Rectangular; Package Style: SMTMeter; Packaging: Tape and Reel; Termination: Wraparound; JESD-609 Code: e3; Resistor Type: FIXED RESISTOR; Technology: METAL GLAZE/THICK FILM; Working Voltage: 150V; RoHS Compliant: Yes; Reach SVHC Compliant: Yes; ComponentLink1URL: https://datasheet.ciiva.com:443/pdfs/VipMasterIC/IC/PANA/PANA-S-A0009889626/PANA-S-A0009889626-1.pdf?src-supplier=IHS+Markit; ComponentLink1Description: https://datasheet.ciiva.com:443/pdfs/VipMasterIC/IC/PANA/PANA-S-A0009889626/PANA-S-A0009889626-1.pdf?src-supplier=IHS+Markit; ComponentLink2URL: https://datasheet.ciiva.com/11821/0900766b80f80784-11821521.pdf?src-supplier=Rs; ComponentLink2Description: https://datasheet.ciiva.com/11821/0900766b80f80784-11821521.pdf?src-supplier=Rs; ComponentLink3URL: https://datasheet.ciiva.com/34303/1989084-34303621.pdf?src-supplier=Jameco; ComponentLink3Description: https://datasheet.ciiva.com/34303/1989084-34303621.pdf?src-supplier=Jameco; ComponentLink4URL: https://datasheet.ciiva.com/9185/aoa0000ce2-9185518.pdf?src-supplier=Avnet; ComponentLink4Description: https://datasheet.ciiva.com/9185/aoa0000ce2-9185518.pdf?src-supplier=Avnet; ComponentLink5URL: https://datasheet.ciiva.com/16758/70260748-16758950.pdf?src-supplier=Allied+Electronics; ComponentLink5Description: https://datasheet.ciiva.com/16758/70260748-16758950.pdf?src-supplier=Allied+Electronics; ComponentLink6URL: https://datasheet.ciiva.com/16774/70260748-16774137.pdf?src-supplier=Allied+Electronics; ComponentLink6Description: https://datasheet.ciiva.com/16774/70260748-16774137.pdf?src-supplier=Allied+Electronics; ComponentLink7URL: https://datasheet.ciiva.com/28547/1678782-28547238.pdf?src-supplier=Element14; ComponentLink7Description: https://datasheet.ciiva.com/28547/1678782-28547238.pdf?src-supplier=Element14; ComponentLink8URL: https://datasheet.ciiva.com/46420/1678782-46420185.pdf?src-supplier=Element14; ComponentLink8Description: https://datasheet.ciiva.com/46420/1678782-46420185.pdf?src-supplier=Element14; ComponentLink9URL: https://datasheet.ciiva.com/22673/1678782-22673290.pdf?src-supplier=Element14; ComponentLink9Description: https://datasheet.ciiva.com/22673/1678782-22673290.pdf?src-supplier=Element14; ComponentLink10URL: https://datasheet.ciiva.com/7909/426256-7909230.pdf?src-supplier=Element14; ComponentLink10Description: https://datasheet.ciiva.com/7909/426256-7909230.pdf?src-supplier=Element14; ComponentLink11URL: https://datasheet.ciiva.com/7909/426256-7909550.pdf?src-supplier=Element14; ComponentLink11Description: https://datasheet.ciiva.com/7909/426256-7909550.pdf?src-supplier=Element14; ComponentLink12URL: https://datasheet.ciiva.com/6137/426256-6137577.pdf?src-supplier=Farnell; ComponentLink12Description: https://datasheet.ciiva.com/6137/426256-6137577.pdf?src-supplier=Farnell; ComponentLink13URL: https://datasheet.ciiva.com/30206/aoa0000ce2-30206602.pdf?src-supplier=Onlinecomponents.com; ComponentLink13Description: https://datasheet.ciiva.com/30206/aoa0000ce2-30206602.pdf?src-supplier=Onlinecomponents.com
pins: 1 -, 2

## ERJ-6ENF1802V
designator R?, comment 18kΩ
Fixed Resistor, Metal Glaze/thick Film, 0.125W, 18000ohm, 150V, 1% +/-Tol, 100ppm/Cel, Surface Mount, 0805 ERJ-6ENF1802V https://www.digikey.ie/en/products/detail/panasonic-electronic-components/ERJ-6ENF1802V/1746468; Power: 125mW; Rated Temperature: 70°C; Value: 18kR; Temperature Coefficient: 100ppm/°C; Package Height: 0.6mm; Package Length: 2mm; Package Width: 1.25mm; Reference Standard: AEC-Q200; Supplier: Digikey; Supplier Part Number: P18.0KCCT-ND; Manufacturer: Panasonic; Manufacturer Part Number: ERJ-6ENF1802V; RoHS: Yes; Category: Chip SMD Resistors; Stock: 80588; Mounting Technology: Surface Mount; Pins: 2; Package Shape: Rectangular; Case/Package: 0805; Terminal Finish: Nickel; Min Operating Temperature: -55°C; Max Operating Temperature: 155°C; Tolerance: 1%; Construction: Rectangular; Package Style: SMTMeter; Packaging: Tape and Reel; Termination: Wraparound; JESD-609 Code: e3; Resistor Type: FIXED RESISTOR; Technology: METAL GLAZE/THICK FILM; Working Voltage: 150V; RoHS Compliant: Yes; Reach SVHC Compliant: Yes; ComponentLink1URL: https://datasheet.ciiva.com:443/pdfs/VipMasterIC/IC/PANA/PANA-S-A0009889626/PANA-S-A0009889626-1.pdf?src-supplier=IHS+Markit; ComponentLink1Description: https://datasheet.ciiva.com:443/pdfs/VipMasterIC/IC/PANA/PANA-S-A0009889626/PANA-S-A0009889626-1.pdf?src-supplier=IHS+Markit; ComponentLink2URL: https://datasheet.ciiva.com/11821/0900766b80f80784-11821548.pdf?src-supplier=Rs; ComponentLink2Description: https://datasheet.ciiva.com/11821/0900766b80f80784-11821548.pdf?src-supplier=Rs; ComponentLink3URL: https://datasheet.ciiva.com/5860/426256-5860694.pdf?src-supplier=Farnell; ComponentLink3Description: https://datasheet.ciiva.com/5860/426256-5860694.pdf?src-supplier=Farnell; ComponentLink4URL: https://datasheet.ciiva.com/24160/aoa0000ce2-24160333.pdf?src-supplier=Mouser; ComponentLink4Description: https://datasheet.ciiva.com/24160/aoa0000ce2-24160333.pdf?src-supplier=Mouser; ComponentLink5URL: https://datasheet.ciiva.com/9192/aoa0000ce2-9192556.pdf?src-supplier=Avnet; ComponentLink5Description: https://datasheet.ciiva.com/9192/aoa0000ce2-9192556.pdf?src-supplier=Avnet; ComponentLink6URL: https://datasheet.ciiva.com/7944/426256-7944951.pdf?src-supplier=Element14; ComponentLink6Description: https://datasheet.ciiva.com/7944/426256-7944951.pdf?src-supplier=Element14; ComponentLink7URL: https://datasheet.ciiva.com/22684/1678782-22684796.pdf?src-supplier=Element14; ComponentLink7Description: https://datasheet.ciiva.com/22684/1678782-22684796.pdf?src-supplier=Element14; ComponentLink8URL: https://datasheet.ciiva.com/22687/1678782-22687421.pdf?src-supplier=Element14; ComponentLink8Description: https://datasheet.ciiva.com/22687/1678782-22687421.pdf?src-supplier=Element14; ComponentLink9URL: https://datasheet.ciiva.com/46376/1678782-46376191.pdf?src-supplier=Element14; ComponentLink9Description: https://datasheet.ciiva.com/46376/1678782-46376191.pdf?src-supplier=Element14; ComponentLink10URL: https://datasheet.ciiva.com/16769/70260748-16769814.pdf?src-supplier=Allied+Electronics; ComponentLink10Description: https://datasheet.ciiva.com/16769/70260748-16769814.pdf?src-supplier=Allied+Electronics
pins: 1 -, 2

## ERJ-6ENF1803V
designator R?, comment 180kΩ
Fixed Resistor, Metal Glaze/thick Film, 0.125W, 180000ohm, 150V, 1% +/-Tol, 100ppm/Cel, Surface Mount, 0805 https://www.digikey.ie/en/products/detail/panasonic-electronic-components/ERJ-6ENF1803V/1746469; Power: 125mW; Rated Temperature: 70°C; Value: 180kR; Temperature Coefficient: 100ppm/°C; Package Height: 0.6mm; Package Length: 2mm; Package Width: 1.25mm; Reference Standard: AEC-Q200; Supplier: Mouser; Supplier Part Number: 667-ERJ-6ENF1803V; Manufacturer: Panasonic; Manufacturer Part Number: ERJ-6ENF1803V; RoHS: Yes; Category: Chip SMD Resistors; Stock: 47449; Mounting Technology: Surface Mount; Pins: 2; Package Shape: Rectangular; Case/Package: 0805; Terminal Finish: Nickel; Min Operating Temperature: -55°C; Max Operating Temperature: 155°C; Tolerance: 1%; Construction: Rectangular; Package Style: SMTMeter; Packaging: Tape and Reel; Termination: Wraparound; JESD-609 Code: e3; Resistor Type: FIXED RESISTOR; Technology: METAL GLAZE/THICK FILM; Working Voltage: 150V; RoHS Compliant: Yes; Reach SVHC Compliant: Yes; ComponentLink1URL: https://datasheet.ciiva.com:443/pdfs/VipMasterIC/IC/PANA/PANA-S-A0009889626/PANA-S-A0009889626-1.pdf?src-supplier=IHS+Markit; ComponentLink1Description: https://datasheet.ciiva.com:443/pdfs/VipMasterIC/IC/PANA/PANA-S-A0009889626/PANA-S-A0009889626-1.pdf?src-supplier=IHS+Markit; ComponentLink2URL: https://datasheet.ciiva.com/11821/0900766b80f80784-11821551.pdf?src-supplier=Rs; ComponentLink2Description: https://datasheet.ciiva.com/11821/0900766b80f80784-11821551.pdf?src-supplier=Rs; ComponentLink3URL: https://datasheet.ciiva.com/5915/426256-5915338.pdf?src-supplier=Farnell; ComponentLink3Description: https://datasheet.ciiva.com/5915/426256-5915338.pdf?src-supplier=Farnell; ComponentLink4URL: https://datasheet.ciiva.com/9185/aoa0000ce2-9185015.pdf?src-supplier=Avnet; ComponentLink4Description: https://datasheet.ciiva.com/9185/aoa0000ce2-9185015.pdf?src-supplier=Avnet; ComponentLink5URL: https://datasheet.ciiva.com/7836/426256-7836535.pdf?src-supplier=Element14; ComponentLink5Description: https://datasheet.ciiva.com/7836/426256-7836535.pdf?src-supplier=Element14; ComponentLink6URL: https://datasheet.ciiva.com/7836/426256-7836822.pdf?src-supplier=Element14; ComponentLink6Description: https://datasheet.ciiva.com/7836/426256-7836822.pdf?src-supplier=Element14; ComponentLink7URL: https://datasheet.ciiva.com/22681/1678782-22681691.pdf?src-supplier=Element14; ComponentLink7Description: https://datasheet.ciiva.com/22681/1678782-22681691.pdf?src-supplier=Element14; ComponentLink8URL: https://datasheet.ciiva.com/30187/aoa0000ce2-30187757.pdf?src-supplier=Onlinecomponents.com; ComponentLink8Description: https://datasheet.ciiva.com/30187/aoa0000ce2-30187757.pdf?src-supplier=Onlinecomponents.com; ComponentLink9URL: https://datasheet.ciiva.com/16780/70260748-16780877.pdf?src-supplier=Allied+Electronics; ComponentLink9Description: https://datasheet.ciiva.com/16780/70260748-16780877.pdf?src-supplier=Allied+Electronics; ComponentLink10URL: https://datasheet.ciiva.com/16758/70260748-16758997.pdf?src-supplier=Allied+Electronics; ComponentLink10Description: https://datasheet.ciiva.com/16758/70260748-16758997.pdf?src-supplier=Allied+Electronics; ComponentLink11URL: https://datasheet.ciiva.com/46398/1678782-46398137.pdf?src-supplier=Element14; ComponentLink11Description: https://datasheet.ciiva.com/46398/1678782-46398137.pdf?src-supplier=Element14; ComponentLink12URL: https://datasheet.ciiva.com/46398/1678782-46398138.pdf?src-supplier=Element14; ComponentLink12Description: https://datasheet.ciiva.com/46398/1678782-46398138.pdf?src-supplier=Element14; ComponentLink13URL: https://datasheet.ciiva.com/28568/1678782-28568746.pdf?src-supplier=Element14; ComponentLink13Description: https://datasheet.ciiva.com/28568/1678782-28568746.pdf?src-supplier=Element14; ComponentLink14URL: https://datasheet.ciiva.com/24024/aoa0000ce2-24024447.pdf?src-supplier=Mouser; ComponentLink14Description: https://datasheet.ciiva.com/24024/aoa0000ce2-24024447.pdf?src-supplier=Mouser
pins: 1 -, 2

## ERJ-6ENF2004V
designator R?, comment 2MΩ
Fixed Resistor, Metal Glaze/thick Film, 0.125W, 2000000ohm, 150V, 1% +/-Tol, 100ppm/Cel, Surface Mount, 0805 https://www.digikey.ie/en/products/detail/panasonic-electronic-components/ERJ-6ENF2004V/282716?s=N4IgjCBcoEwAwA4CsVQGMoDMCGAbAzgKYA0IA9lANogwAEAsgPIAWAtviALqkAOALlBABVAHYBLPo0z1C2fAFcAToRABfUgFoI0EBkg4CJclXBwu6kBoAsqXVjxFSFSNQQIA7HADM5izBPK%2BGL4fGSK5kA; Power: 125mW; Rated Temperature: 70°C; Value: 2MR; Temperature Coefficient: 100ppm/°C; Package Height: 0.6mm; Package Length: 2mm; Package Width: 1.25mm; Reference Standard: AEC-Q200; Supplier: Mouser; Supplier Part Number: 667-ERJ-6ENF2004V; Manufacturer: Panasonic; Manufacturer Part Number: ERJ-6ENF2004V; RoHS: Yes; Category: Chip SMD Resistors; Stock: 42928; Pricing: 1=0.1, 10=0.034, 50=0.034, 100=0.021, 1000=0.018, 10000=0.011 (USD); Mounting Technology: Surface Mount; Pins: 2; Package Shape: Rectangular; Case/Package: 0805; Terminal Finish: Nickel; Min Operating Temperature: -55°C; Max Operating Temperature: 155°C; Tolerance: 1%; JESD-609 Code: e3; Resistor Type: FIXED RESISTOR; Construction: Rectangular; Package Style: SMTMeter; Packaging: Tape and Reel; Technology: METAL GLAZE/THICK FILM; Termination: Wraparound; Working Voltage: 150V; Reach SVHC Compliant: Yes; RoHS Compliant: Yes; ComponentLink1URL: https://datasheet.ciiva.com:443/pdfs/VipMasterIC/IC/PANA/PANA-S-A0009889626/PANA-S-A0009889626-1.pdf?src-supplier=IHS+Markit; ComponentLink1Description: https://datasheet.ciiva.com:443/pdfs/VipMasterIC/IC/PANA/PANA-S-A0009889626/PANA-S-A0009889626-1.pdf?src-supplier=IHS+Markit; ComponentLink2URL: https://datasheet.ciiva.com/11821/0900766b80f80784-11821606.pdf?src-supplier=Rs; ComponentLink2Description: https://datasheet.ciiva.com/11821/0900766b80f80784-11821606.pdf?src-supplier=Rs; ComponentLink3URL: https://datasheet.ciiva.com/16776/70260748-16776719.pdf?src-supplier=Allied+Electronics; ComponentLink3Description: https://datasheet.ciiva.com/16776/70260748-16776719.pdf?src-supplier=Allied+Electronics; ComponentLink4URL: https://datasheet.ciiva.com/46420/1678782-46420189.pdf?src-supplier=Element14; ComponentLink4Description: https://datasheet.ciiva.com/46420/1678782-46420189.pdf?src-supplier=Element14; ComponentLink5URL: https://datasheet.ciiva.com/27055/1989148-27055740.pdf?src-supplier=Jameco; ComponentLink5Description: https://datasheet.ciiva.com/27055/1989148-27055740.pdf?src-supplier=Jameco
pins: 1 -, 2